# Altium footprint library 358815.PcbLib: 1 footprints
Each footprint in its own frame and in the unit in brackets; x right, y up, seen from the top. Pads: shape width x height; smd on the part's side, far side on the other; paste and mask are expansions set on the pad; w line width, h text height; cw(c..) or ccw(c..) is an arc to the next point about the centre after c.
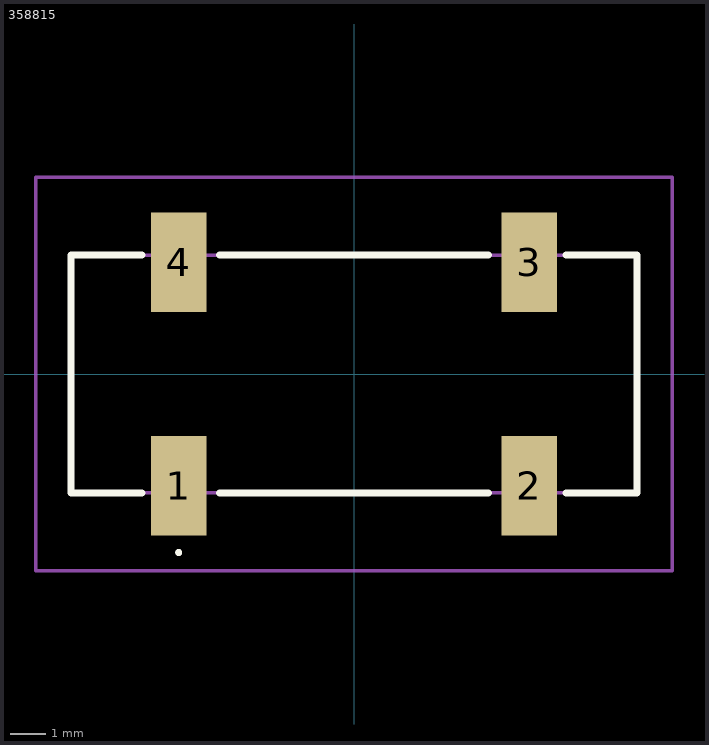
[diagram p0: the footprint, top view; thin cyan lines are the x and y axes]

## 358815 [mm]
pads (4):
  rect 1.57x2.82 smd: 1(-4.96,-3.16) 2(4.96,-3.16) 3(4.96,3.16) 4(-4.96,3.16)
Top Overlay:
  lines w0.1: -4.96,-5.1 cw(c-4.96,-5.05) -4.96,-5 ; -4.96,-5.1 -4.96,-5.1 ; -4.96,-5.1 ccw(c-4.96,-5.05) -4.96,-5 ; -4.96,-5 -4.96,-5
  lines w0.2: -6,-3.365 -8,-3.365 -8,3.365 -6,3.365 ; -3.8,-3.365 3.8,-3.365 ; -3.8,3.365 3.8,3.365 ; 6,-3.365 8,-3.365 8,3.365 6,3.365
Mechanical 15:
  lines w0.1: -8,-3.365 8,-3.365 8,3.365 -8,3.365 -8,-3.365
Mechanical 20:
  lines w0.1: -9,-5.57 9,-5.57 9,5.57 -9,5.57 -9,-5.57